# Altium footprint library PcbLib.PcbLib: 7 footprints
Each footprint in its own frame and in the unit in brackets; x right, y up, seen from the top. Pads: shape width x height; smd on the part's side, far side on the other; paste and mask are expansions set on the pad; w line width, h text height; cw(c..) or ccw(c..) is an arc to the next point about the centre after c.
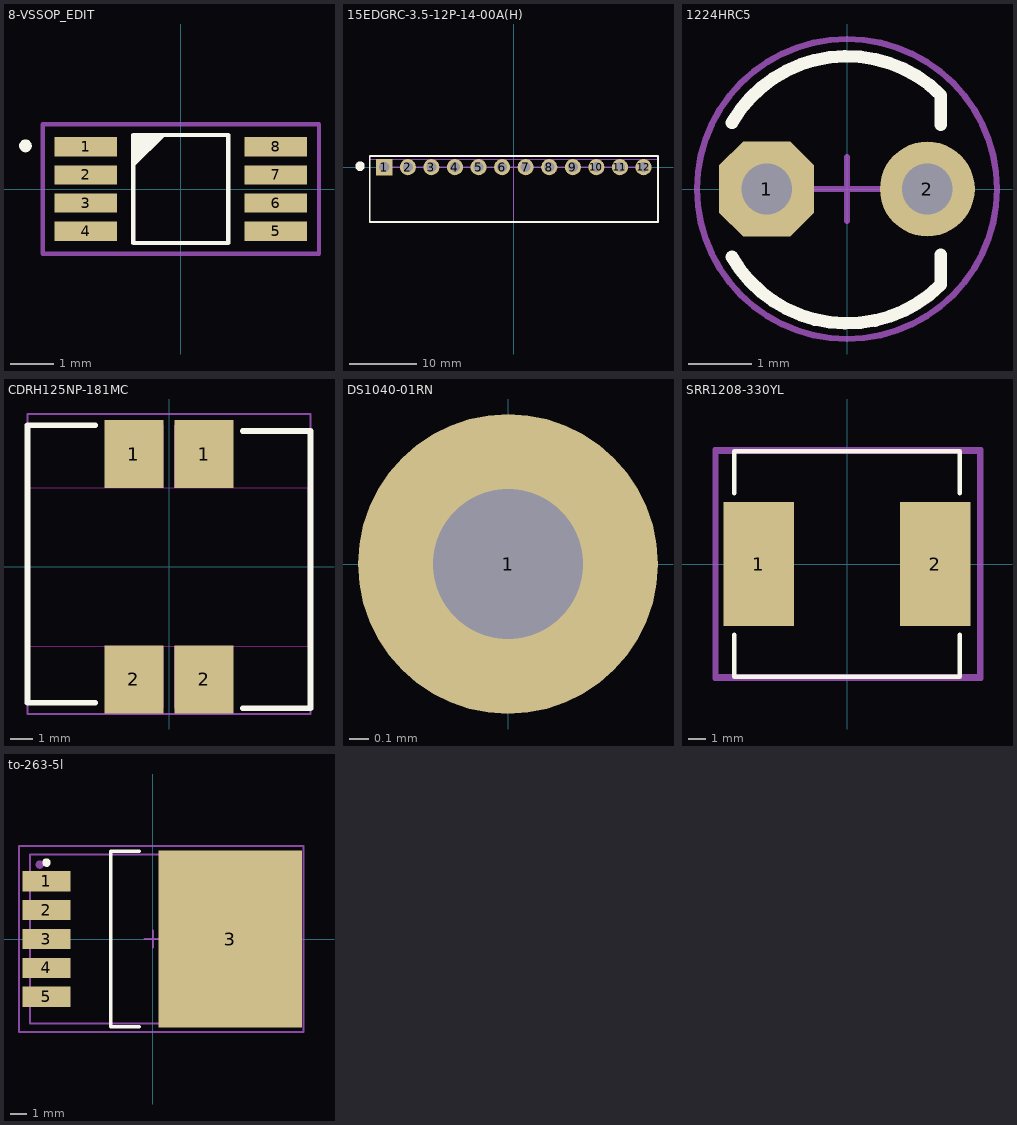
[diagram p0: the footprints below, top view; thin cyan lines are the x and y axes]

## 8-VSSOP_EDIT [mm]
pads (9):
  rect 1.45x0.45 smd: 1(-2.2,0.975) 2(-2.2,0.325) 3(-2.2,-0.325) 4(-2.2,-0.975) 5(2.2,-0.975) 6(2.2,-0.325) 7(2.2,0.325) 8(2.2,0.975)
  round 0.3 on Top Overlay: ""(-3.6,1)
Top Overlay:
  region: -1.1,1.25 -0.35,1.25 -1.1,0.5
  lines w0.1: -1.1,-1.25 1.1,-1.25 1.1,1.25 -1.1,1.25 -1.1,-1.25
Mechanical 1:
  lines w0.1: -3.2,-1.5 3.2,-1.5 3.2,1.5 -3.2,1.5 -3.2,-1.5

## 15EDGRC-3.5-12P-14-00A(H) [mm] "Connector"
pads (12):
  rect 2.4x2.4 hole 1.5: 1(-19.25,0)
  round 2.4 hole 1.5: 2(-15.75,0) 3(-12.25,0) 4(-8.75,0) 5(-5.25,0) 6(-1.75,0) 7(1.75,0) 8(5.25,0) 9(8.75,0) 10(12.25,0) 11(15.75,0) 12(19.25,0)
Top Overlay:
  circle w0.8: c-22.85,0.15 r0.3
  lines w0.25: -21.4,1.675 -21.4,0 -21.4,-8.15 3.5,-8.15 21.4,-8.15 21.4,0 21.4,1.675
  lines w0.254: -21.4,1.675 21.4,1.675
Mechanical 1:
  lines w0.125: 0,-8.15 0,1.125 ; -21.4,-8.15 3.5,-8.15 21.4,-8.15 21.4,0 21.4,1.175 -21.4,1.175 -21.4,0 -21.4,-8.15
  lines w0.254: -19.25,0 19.25,0

## 1224HRC5 [mm]
pads (2):
  oct 1.5x1.5 hole 0.8: 1(-1.27,0)
  round 1.5 hole 0.8: 2(1.27,0)
Top Overlay:
  lines w0.2: -1.819,-1.075 ccw(c0,-0.025) 1.485,-1.51 1.485,-1.04 ; -1.819,1.05 cw(c0,0) 1.485,1.485 1.485,1.015
Mechanical 1:
  circle w0.1: c0,0 r2.372
Mechanical 15:
  circle w0.1: c0,0 r2.372
  lines w0.1: -0.5,0 0.5,0 ; 0,-0.5 0,0.5
3D body "3mm_led_red.STEP": height 12, standoff -1, extent -2,-2 2,2

## CDRH125NP-181MC [mm]
pads (4):
  rect 2.6x3 smd: 1(-1.55,4.975) 1(1.55,4.975) 2(-1.55,-4.975) 2(1.55,-4.975)
Top Overlay:
  lines w0.25: -3.25,-6 -6.25,-6 -6.25,6.25 -3.25,6.25 ; 3.25,-6.25 6.25,-6.25 6.25,6 3.25,6
Keep-Out Layer:
  lines w0.05: -6.15,-3.5 6.15,-3.5 6.15,3.5 -6.15,3.5 -6.15,-3.5
Mechanical 1:
  lines w0.05: -0.25,-6.25 -0.25,-3.5 ; -0.25,3.5 -0.25,6.25 ; 0.25,-6.25 0.25,-3.5 ; 0.25,3.5 0.25,6.25
  lines w0.1: -6.25,-6.5 6.25,-6.5 6.25,6.75 -6.25,6.75 -6.25,-6.5

## DS1040-01RN [mil] "DIP переключатель, 1pin"
pads (1):
  round 60 hole 30: 1(0,0)

## SRR1208-330YL [mm] "Inductor"
pads (2):
  rect 4x7 smd: 1(-5,0) 2(5,0)
Top Overlay:
  lines w0.254: -6.4,-4 -6.4,-6.4 6.4,-6.4 6.4,-4 ; -6.4,4 -6.4,6.4 6.4,6.4 6.4,4
Mechanical 1:
  lines w0.254: -7.4,-6.35 -7.4,-0.95 -7.4,6.35 ; -7.3,-6.35 0,-6.35 7.5,-6.35 7.5,1.15 7.5,6.35 0,6.35 -7.3,6.35
Mechanical 15:
  lines w0.254: -7.5,-6.5 7.6,-6.5 7.6,6.5 -7.5,6.5 -7.5,-6.5

## to-263-5l [mm]
pads (7):
  rect 2.85x1.2 smd: 1(-6.3,3.42) 2(-6.3,1.71) 3(-6.3,0) 4(-6.3,-1.71) 5(-6.3,-3.42)
  rect 8.5x10.5 smd: 3(4.572,0)
  round 0.5 on Mech1: ""(-6.7,4.4)
Top Overlay:
  circle w0.25: c-6.3,4.52 r0.125
  lines w0.2: -0.8,-5.2 -2.5,-5.2 -2.5,5.2 -0.8,5.2
Mechanical 1:
  lines w0.1: -7.276,-5 -7.276,5 8.394,5 8.394,-5 -7.276,-5
Mechanical 15:
  lines w0.1: -0.5,0 0.5,0 ; 0,-0.5 0,0.5 ; -7.925,-5.5 8.9,-5.5 8.9,5.5 -7.925,5.5 -7.925,-5.5
3D body "TO263-5S.STEP": height 4.93, standoff 0.13, extent -7.276,-5 8.394,5